# Altium footprint library PcbLib1.PcbLib: 1 footprints
Each footprint in its own frame and in the unit in brackets; x right, y up, seen from the top. Pads: shape width x height; smd on the part's side, far side on the other; paste and mask are expansions set on the pad; w line width, h text height; cw(c..) or ccw(c..) is an arc to the next point about the centre after c.
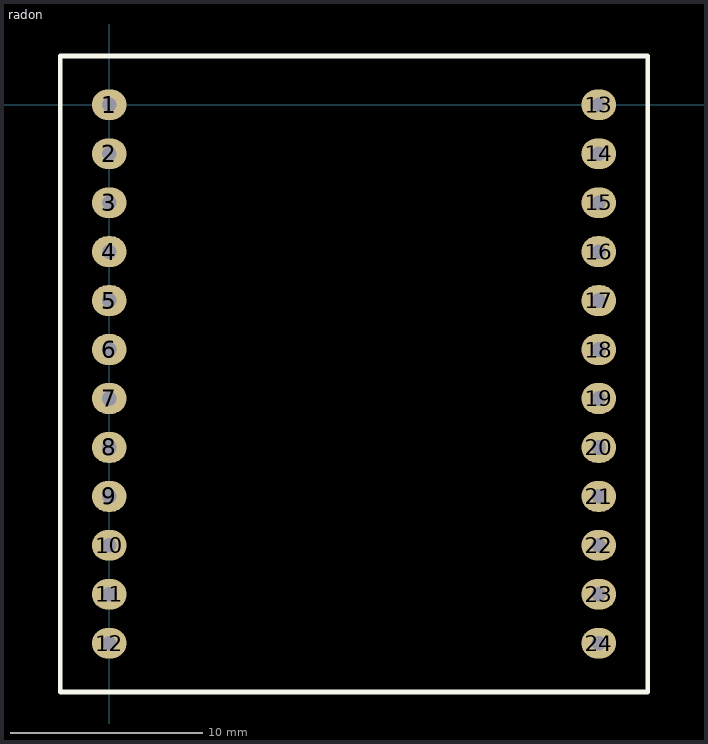
[diagram p0: the footprint, top view; thin cyan lines are the x and y axes]

## radon [mm]
pads (24):
  oval 1.8x1.6 hole 0.762: 1(0,0) 2(0,-2.54) 3(0,-5.08) 4(0,-7.62) 5(0,-10.16) 6(0,-12.7) 7(0,-15.24) 8(0,-17.78) 9(0,-20.32) 10(0,-22.86) 11(0,-25.4) 12(0,-27.94) 13(25.4,0) 14(25.4,-2.54) 15(25.4,-5.08) 16(25.4,-7.62) 17(25.4,-10.16) 18(25.4,-12.7) 19(25.4,-15.24) 20(25.4,-17.78) 21(25.4,-20.32) 22(25.4,-22.86) 23(25.4,-25.4) 24(25.4,-27.94)
Top Overlay:
  lines w0.254: -2.54,-30.48 -2.54,2.54 27.94,2.54 27.94,-30.48 -2.54,-30.48